# EAGLE library part MAX17048G+T10 (library MAX17048G+T10)
3A 1-Cell/2-Cell Fuel Gauge with ModelGauge Source: Datasheet <https://www.analog.com/MAX17048/datasheet>
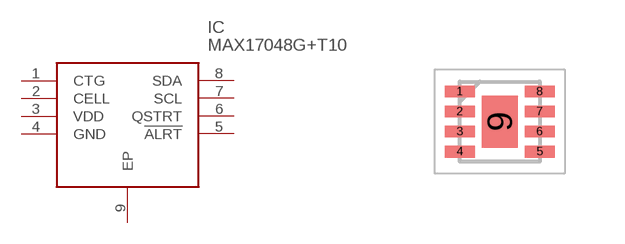
[diagram p0: symbol with the pads of SON50P200X200X80-9N; footprint SON50P200X200X80-9N]

Designator prefix IC

## MAX17048G+T10 (Description: 3A 1-Cell/2-Cell Fuel Gauge with ModelGauge; Height: 0.8mm; Manufacturer_Name: Analog Devices; Manufacturer_Part_Number: MAX17048G+T10; Mouser_Part_Number: 700-MAX17048G+T10; Mouser_Price-Stock: https://www.mouser.co.uk/ProductDetail/Analog-Devices-Maxim-Integrated/MAX17048G%2bT10?qs=D7PJwyCwLAoGnnn8jEPRBQ%3D%3D)  [SON50P200X200X80-9N]
1  CTG
2  CELL
3  VDD
4  GND
5  !ALRT
6  QSTRT
7  SCL
8  SDA
9  EP

## Footprint SON50P200X200X80-9N (pad centres in mm)
T822+3
smd 0.75 x 0.3: 1 -1,0.75; 2 -1,0.25; 3 -1,-0.25; 4 -1,-0.75; 5 1,-0.75; 6 1,-0.25; 7 1,0.25; 8 1,0.75
smd 0.9 x 1.3: 9 0,0